# Altium footprint library PCB11.PcbLib: 29 footprints (part 1 of 2)
Each footprint in its own frame and in the unit in brackets; x right, y up, seen from the top. Pads: shape width x height; smd on the part's side, far side on the other; paste and mask are expansions set on the pad; w line width, h text height; cw(c..) or ccw(c..) is an arc to the next point about the centre after c.
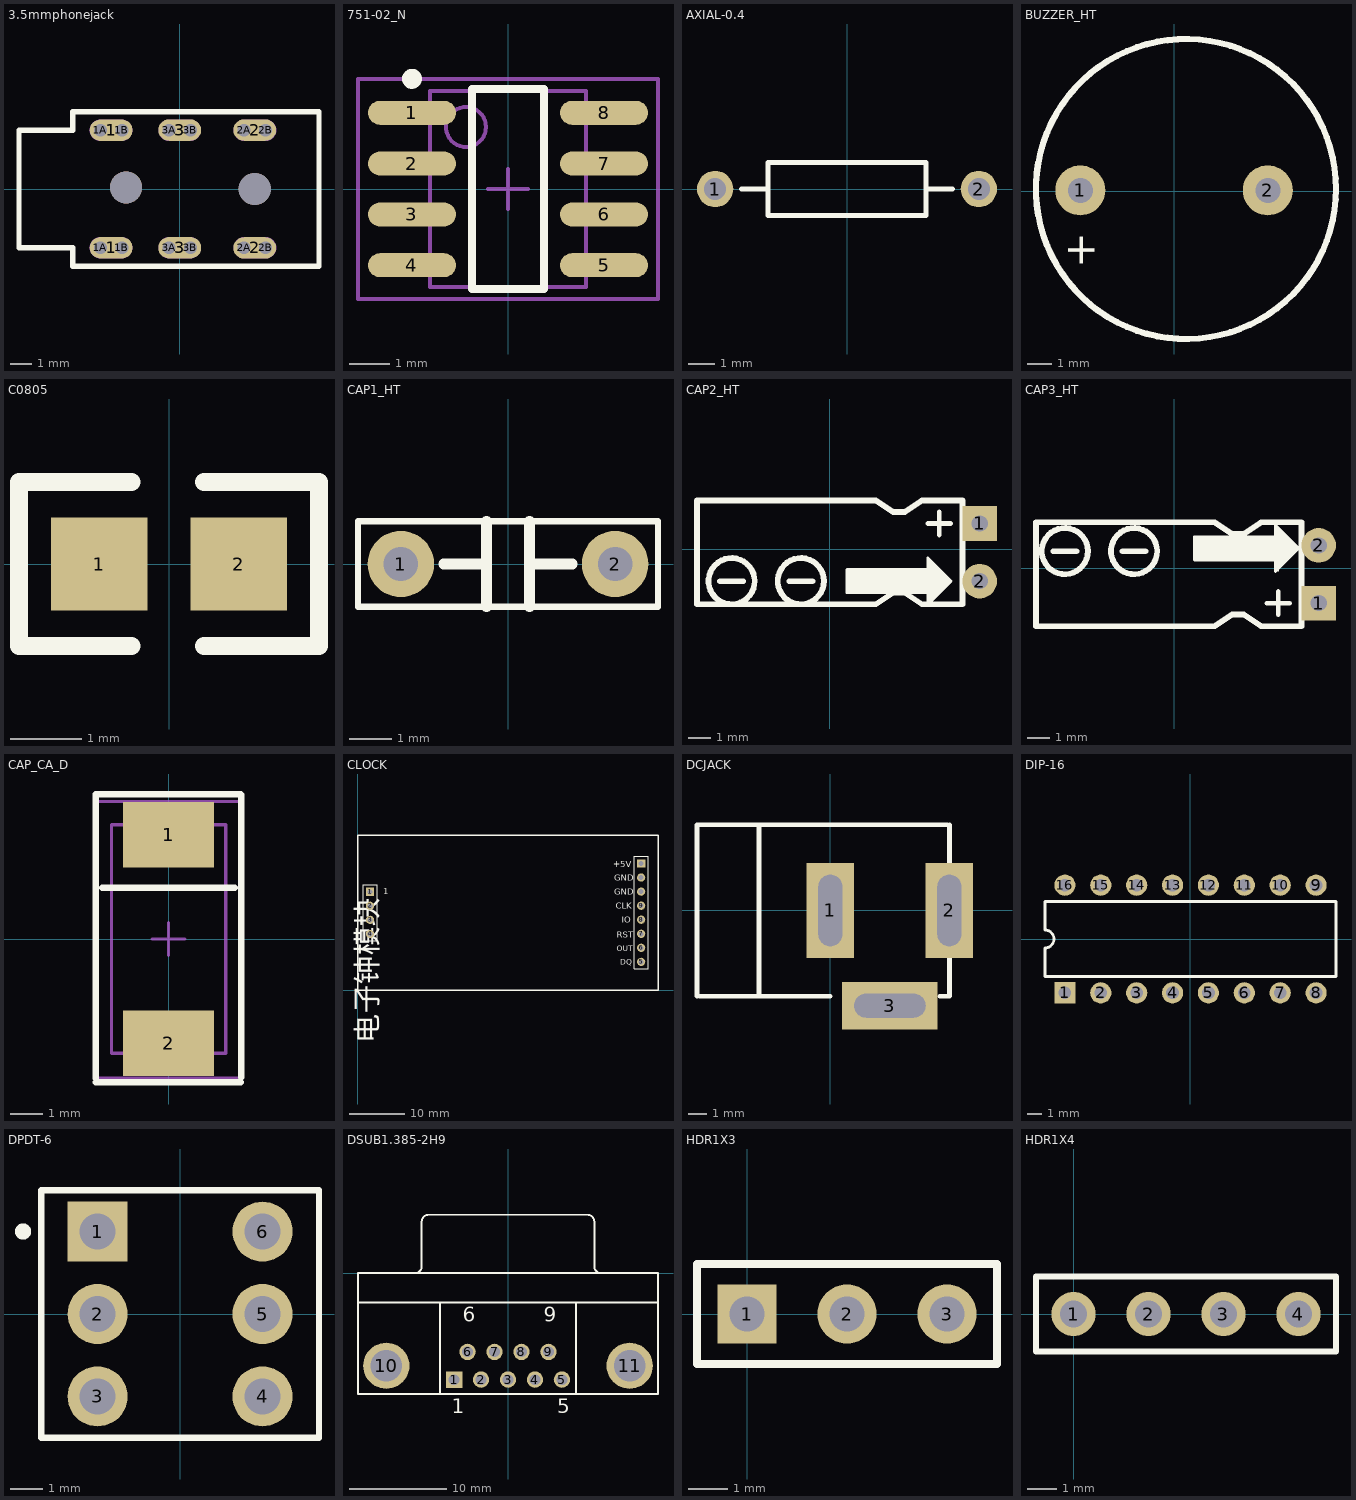
[diagram p0: the footprints below, top view; thin cyan lines are the x and y axes]

## 3.5mmphonejack [mm]
pads (20):
  oval 2x1 all layers, no hole: 1(-3.199,-2.743) 1(-3.199,2.743) 2(3.5,-2.75) 2(3.5,2.75) 3(0,2.75) 3(0.001,-2.743)
  round 0.8 hole 0.6: 1A(-3.699,-2.743) 1A(-3.699,2.743) 1B(-2.699,-2.743) 1B(-2.699,2.743) 2A(3.007,-2.743) 2A(3.007,2.743) 2B(4.007,-2.743) 2B(4.007,2.743) 3A(-0.499,-2.743) 3A(-0.499,2.743) 3B(0.501,-2.743) 3B(0.501,2.743)
  round 1.5 hole 1.5: ""(-2.5,0.076) ""(3.5,0)
Top Overlay:
  lines w0.254: -5,-3.607 -5,-2.75 -7.5,-2.75 -7.5,2.75 -5,2.75 -5,3.6 6.484,3.6 6.5,3.584 6.5,-3.556 ; -5,-3.6 6.5,-3.6
Mechanical 1:
  lines w0.6: -3.699,-2.743 -2.699,-2.743 ; -3.699,2.743 -2.699,2.743 ; -0.499,-2.743 0.501,-2.743 ; -0.499,2.743 0.501,2.743 ; 3.007,-2.743 4.007,-2.743 ; 3.007,2.743 4.007,2.743
Mechanical 2:
  lines w1: -3.699,-2.743 -2.699,-2.743 ; -3.699,2.743 -2.699,2.743 ; -0.499,-2.743 0.501,-2.743 ; -0.499,2.743 0.501,2.743 ; 3.007,-2.743 4.007,-2.743 ; 3.007,2.743 4.007,2.743

## 751-02_N [mm] "SOIC, 8-Leads, Body 4.9x3.9mm, Pitch 1.27mm, IPC Medium Density"
height 1.75
pads (8):
  oval 2.2x0.6 smd: 1(-2.4,1.905) 2(-2.4,0.635) 3(-2.4,-0.635) 4(-2.4,-1.905) 5(2.4,-1.905) 6(2.4,-0.635) 7(2.4,0.635) 8(2.4,1.905)
Top Overlay:
  circle w0.25: c-2.4,2.755 r0.125
  lines w0.2: -0.9,-2.5 0.9,-2.5 0.9,2.5 -0.9,2.5 -0.9,-2.5
Mechanical 13:
  circle w0.1: c-1.05,1.55 r0.5
  lines w0.1: -1.95,-2.45 1.95,-2.45 1.95,2.45 -1.95,2.45 -1.95,-2.45
Mechanical 15:
  lines w0.1: -0.5,0 0.5,0 ; 0,-0.5 0,0.5 ; -3.75,-2.75 3.75,-2.75 3.75,2.75 -3.75,2.75 -3.75,-2.75
3D body: height 1.75, standoff 0, extent -1.95,-2.45 1.95,2.45

## AXIAL-0.4 [mm] "Resistor; 2 Leads"
height 2.032
pads (2):
  round 1.4 hole 0.85: 1(-5.08,0) 2(5.08,0)
Top Overlay:
  lines w0.2: -4.064,0 -3.048,0 ; 3.048,0 4.064,0 ; -3.048,-1.016 3.048,-1.016 3.048,1.016 -3.048,1.016 -3.048,-1.016

## BUZZER_HT [mil]
pads (2):
  round 80 hole 40: 1(-150.63,1.69) 2(149.37,1.69)
Top Overlay:
  circle w10: c18.54,3.94 r240
  text "+" at -170,-65 h50

## C0805 [mm]
pads (2):
  rect 1.35x1.3 smd: 1(-0.975,0) 2(0.975,0)
Top Overlay:
  lines w0.254: -0.523,-1.15 -2.1,-1.15 -2.1,1.15 -0.523,1.15 ; 0.494,-1.15 2.1,-1.15 2.1,1.15 0.494,1.15

## CAP1_HT [mil]
pads (2):
  round 62 hole 32: 1(-100,0) 2(100,0)
Top Overlay:
  lines w6: -140,-40 140,-40 140,40 -140,40 -140,-40
  lines w10: -60,0 -20,0 ; -20,-40 -20,40 ; 20,-40 20,40 ; 20,0 60,0

## CAP2_HT [mil]
pads (2):
  rect 60x60 hole 28: 1(260,45)
  round 60 hole 28: 2(260,-55)
Top Overlay:
  circle w10: c-50,-55 r40.01
  circle w10: c-170,-55 r40
  region: 190.94,-68.57 190.94,-71.64 193.13,-71.64 193.13,-68.57
  region: 190.94,-61 190.94,-68.74 196.2,-68.74 196.2,-61
  region: 184.41,-72.84 184.41,-78.03 186.72,-78.03 186.72,-72.84
  region: 178.79,-80 178.79,-83.08 181.86,-83.08 181.86,-80
  region: 169.94,-84.83 169.94,-94.83 175.94,-94.83 175.94,-84.83
  region: 169.94,-80 169.94,-86.15 178.79,-86.15 178.79,-80
  region: 169.94,-72.83 169.94,-80.34 184.42,-80.34 184.42,-72.83
  region: 190.94,-38.8 190.94,-40.62 193.58,-40.62 193.58,-38.8
  region: 190.92,-40.46 190.92,-43.09 195.38,-43.09 195.38,-40.46
  region: 190.94,-43.09 190.94,-48.85 198.03,-48.85 198.03,-43.09
  region: 169.92,-20.76 169.92,-24.84 175.84,-24.84 175.84,-20.76
  region: 169.92,-23.45 169.92,-27.84 178.53,-27.84 178.53,-23.45
  region: 169.94,-26.24 169.94,-30 181.18,-30 181.18,-26.24
  region: 169.94,-29.31 169.94,-33 184.25,-33 184.25,-29.31
  region: 169.94,-32.31 169.94,-37 187.25,-37 187.25,-32.31
  region: 190.94,-48.85 190.94,-61 203.79,-61 203.79,-48.85
  region: 182.94,-46.15 182.94,-65 201.09,-65 201.09,-46.15
  region: 29.94,-35 29.94,-75 190.94,-75 190.94,-35
  lines w5: 170,-75 30,-75 30,-35 170,-35 ; 197,-55 210,-55 ; 210,-55 170,-95 170,-15 210,-55
  lines w8: 170,45 210,45 ; 190,25 190,65
  lines w10: -190,-55 -150,-55 ; -70,-55 -30,-55 ; -230,-95 -230,85 80,85 110,65 130,65 160,85 230,85 230,-95 160,-95 130,-75 110,-75 80,-95 -230,-95

## CAP3_HT [mil]
pads (2):
  rect 60x60 hole 28: 1(250,-60)
  round 60 hole 28: 2(250,40)
Top Overlay:
  circle w10: c-70,30 r40.01
  circle w10: c-190,30 r40
  region: 34.94,55 34.94,15 195.94,15 195.94,55
  region: 187.94,43.85 187.94,25 206.09,25 206.09,43.85
  region: 195.94,41.15 195.94,29 208.79,29 208.79,41.15
  region: 174.94,57.69 174.94,53 192.25,53 192.25,57.69
  region: 174.94,60.69 174.94,57 189.25,57 189.25,60.69
  region: 174.94,63.76 174.94,60 186.18,60 186.18,63.76
  region: 174.92,66.55 174.92,62.16 183.53,62.16 183.53,66.55
  region: 174.92,69.24 174.92,65.16 180.84,65.16 180.84,69.24
  region: 195.94,46.91 195.94,41.15 203.03,41.15 203.03,46.91
  region: 195.92,49.54 195.92,46.91 200.38,46.91 200.38,49.54
  region: 195.94,51.2 195.94,49.38 198.58,49.38 198.58,51.2
  region: 174.94,17.17 174.94,9.66 189.42,9.66 189.42,17.17
  region: 174.94,10 174.94,3.85 183.79,3.85 183.79,10
  region: 174.94,5.17 174.94,-4.83 180.94,-4.83 180.94,5.17
  region: 183.79,10 183.79,6.92 186.86,6.92 186.86,10
  region: 189.41,17.16 189.41,11.97 191.72,11.97 191.72,17.16
  region: 195.94,29 195.94,21.26 201.2,21.26 201.2,29
  region: 195.94,21.43 195.94,18.36 198.13,18.36 198.13,21.43
  lines w5: 175,15 35,15 35,55 175,55 ; 202,35 215,35 ; 215,35 175,75 175,-5 215,35
  lines w8: 160,-60 200,-60 ; 180,-80 180,-40
  lines w10: -210,30 -170,30 ; -90,30 -50,30 ; -240,-100 -240,80 70,80 100,60 120,60 150,80 220,80 220,-100 150,-100 120,-80 100,-80 70,-100 -240,-100

## CAP_CA_D [mm]
height 1.75
pads (2):
  rect 2.8x2 smd: 1(0,3.2) 2(0,-3.2)
Top Overlay:
  lines w0.2: -2.235,-4.394 2.21,-4.394 ; -2.235,-4.267 -2.235,4.445 2.21,4.445 ; -2.032,1.575 2.032,1.575 ; 2.235,-4.242 2.235,4.42
Mechanical 13:
  lines w0.1: -2.21,-4.267 -2.21,4.216 2.261,4.216 2.261,-4.267 -2.21,-4.267
Mechanical 15:
  lines w0.1: -0.5,0 0.5,0 ; 0,-0.5 0,0.5 ; -1.75,-3.5 -1.75,3.5 1.75,3.5 1.75,-3.5 -1.75,-3.5

## CLOCK [mm]
pads (12):
  rect 1.5x1.5 hole 0.9: 1(2.251,17.78) 12(51.251,22.89)
  round 1.5 hole 0.9: 2(2.251,15.24) 3(2.251,12.7) 4(2.251,10.16) 5(51.251,5.11) 6(51.251,7.65) 7(51.251,10.19) 8(51.251,12.73) 9(51.251,15.27) 10(51.251,17.81) 11(51.251,20.35)
Top Overlay:
  lines w0.2: 0.981,8.89 3.521,8.89 3.521,19.05 0.981,19.05 0.981,8.89 ; 49.981,3.84 49.981,24.16 52.521,24.16 52.521,3.84 49.981,3.84
  lines w0.254: 0.076,0 0.076,28.016 54.305,28.016 54.305,0 0.076,0
  text "电子钟模块" at 3.556,-9.525 h3.81
  text "DQ" at 47.498,4.597 h1.02
  text "GND" at 46.431,19.812 h1.14
  text "GND" at 46.431,17.272 h1.14
  text "+5V" at 46.177,22.225 h1.14
  text "CLK" at 46.685,14.732 h1.14
  text "IO" at 47.777,12.167 h1.14
  text "RST" at 46.838,9.5 h1.14
  text "OUT" at 46.838,7.061 h1.02
  text "1" at 4.623,17.323 h1.14

## DCJACK [mm]
pads (3):
  rect 2.54x5.08 hole 1.27 slot 3.81 at 90 deg: 1(0,0) 2(6.35,0)
  rect 5.08x2.54 hole 1.27 slot 3.81 at 0 deg: 3(3.175,-5.08)
Top Overlay:
  lines w0.254: -7.112,-4.572 -7.112,4.572 6.223,4.572 ; -6.985,-4.572 0,-4.572 ; -3.81,-4.572 -3.81,4.572 ; 5.842,-4.572 6.35,-4.572 6.35,-2.54 ; 6.35,2.54 6.35,4.572

## DIP-16 [mm]
pads (16):
  rect 1.5x1.5 hole 0.9: 1(-8.89,-3.81)
  round 1.5 hole 0.9: 2(-6.35,-3.81) 3(-3.81,-3.81) 4(-1.27,-3.81) 5(1.27,-3.81) 6(3.81,-3.81) 7(6.35,-3.81) 8(8.89,-3.81) 9(8.89,3.81) 10(6.35,3.81) 11(3.81,3.81) 12(1.27,3.81) 13(-1.27,3.81) 14(-3.81,3.81) 15(-6.35,3.81) 16(-8.89,3.81)
Top Overlay:
  lines w0.2: -10.3,-2.65 -10.3,-0.635 ccw(c-10.3,0) -10.3,0.635 -10.3,2.65 10.3,2.65 10.3,-2.65 -10.3,-2.65

## DPDT-6 [mm] "Double-Pole, Double-Throw Switch; 6 Leads"
height 1.75
pads (6):
  rect 1.85x1.85 hole 1.1: 1(-2.54,2.54)
  round 1.85 hole 1.1: 2(-2.54,0) 3(-2.54,-2.54) 4(2.54,-2.54) 5(2.54,0) 6(2.54,2.54)
Top Overlay:
  circle w0.25: c-4.836,2.541 r0.125
  lines w0.2: -4.28,-3.81 4.28,-3.81 4.28,3.81 -4.28,3.81 -4.28,-3.81

## DSUB1.385-2H9 [mm] "Connector; D Subminiature; 9 Position; Right Angle; Pitch 1.385 mm"
height 12.75
pads (11):
  rect 1.69x1.69 hole 1.09: 1(-5.54,-10.92)
  round 1.69 hole 1.09: 2(-2.77,-10.92) 3(0,-10.92) 4(2.77,-10.92) 5(5.54,-10.92) 6(-4.155,-8.08) 7(-1.385,-8.08) 8(1.385,-8.08) 9(4.155,-8.08)
  round 4.76 hole 3.26: 10(-12.495,-9.5) 11(12.495,-9.5)
Top Overlay:
  lines w0.2: -15.4,-3 15.4,-3 ; -9.56,0.005 ccw(c-9.56,0.7) -8.865,0.7 -8.865,5.3 ; -8.86,5.305 cw(c-8.165,5.305) -8.165,6 8.165,6 cw(c8.165,5.305) 8.86,5.305 ; -7,-12.4 -7,-3 ; 7,-12.4 7,-3 ; 8.865,5.3 8.865,0.7 ccw(c9.56,0.7) 9.56,0.005 ; -15.4,-12.4 15.4,-12.4 15.4,0 -15.4,0 -15.4,-12.4
  text "6" at -4.655,-4.975 h1.5
  text "9" at 3.655,-4.975 h1.5
  text "5" at 5.04,-14.375 h1.5
  text "1" at -5.79,-14.375 h1.5

## HDR1X3 [mm] "Connector; Header; 3 Position"
pads (3):
  rect 1.5x1.5 hole 0.9: 1(0,0)
  round 1.5 hole 0.9: 2(2.54,0) 3(5.08,0)
Top Overlay:
  lines w0.2: -1.27,-1.27 6.35,-1.27 6.35,1.27 -1.27,1.27 -1.27,-1.27

## HDR1X4 [mm] "Connector; Header; 4 Position"
pads (4):
  round 1.5 hole 0.9: 1(0,0) 2(2.54,0) 3(5.08,0) 4(7.62,0)
Top Overlay:
  lines w0.2: -1.27,-1.27 -1.27,1.27 8.89,1.27 8.89,-1.27 -1.27,-1.27